# Altium footprint library PcbLib.PcbLib: 5 footprints
Each footprint in its own frame and in the unit in brackets; x right, y up, seen from the top. Pads: shape width x height; smd on the part's side, far side on the other; paste and mask are expansions set on the pad; w line width, h text height; cw(c..) or ccw(c..) is an arc to the next point about the centre after c.
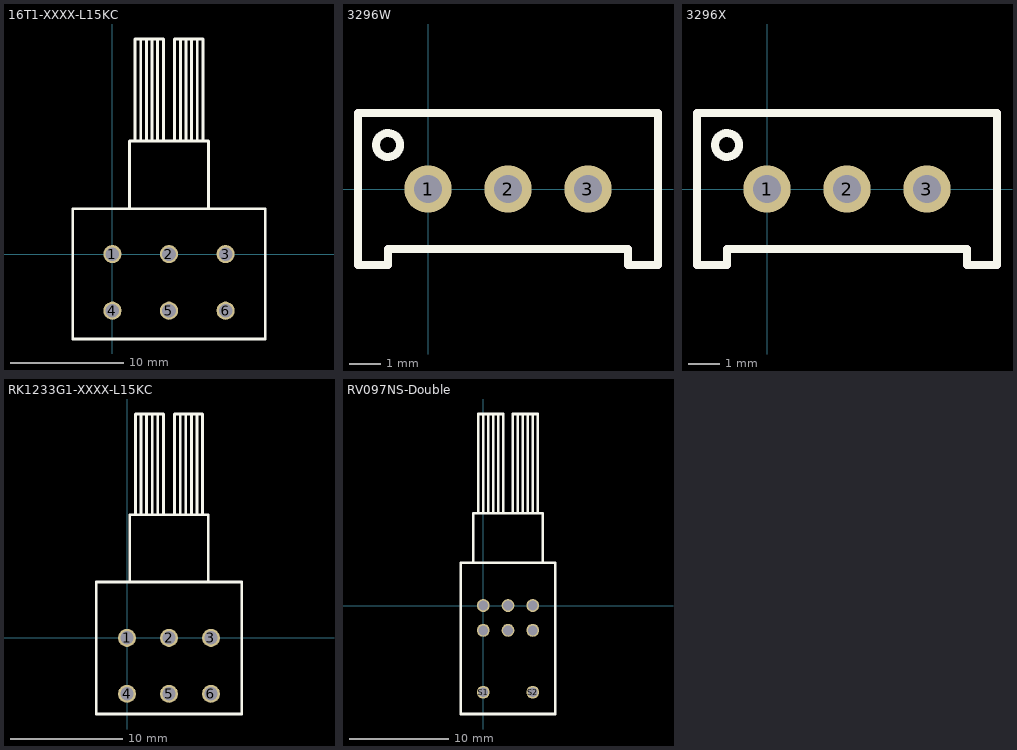
[diagram p0: the footprints below, top view; thin cyan lines are the x and y axes]

## 16T1-XXXX-L15KC [mm]
height 21
pads (6):
  round 1.6 hole 1.2: 1(0,0) 2(5,0) 3(10,0) 4(0,-5) 5(5,-5) 6(10,-5)
Top Overlay:
  lines w0.254: 1.5,4 1.5,10 ; 2.5,10 2.5,19 ; 3,10 3,19 ; 3.5,10 3.5,19 ; 4,10 4,19 ; 4.5,10 4.5,19 2,19 2,10 1.5,10 ; 5.5,10 5.5,19 8,19 8,10 ; 6,10 6,19 ; 6.5,10 6.5,19 ; 7,10 7,19 ; 7.5,10 7.5,19 ; 8.5,4 8.5,10 1.5,10 ; -3.5,-7.5 -3.5,4 13.5,4 13.5,-7.5 -3.5,-7.5
3D body "Potentiometer.stp": height 20.74, standoff -5.01, extent -3.5,-5.698 13.5,24.002

## 3296W [mm]
height 10.795
pads (3):
  round 1.5 hole 0.9: 1(0,0) 2(2.54,0) 3(5.08,0)
Top Overlay:
  circle w0.254: c-1.27,1.397 r0.381
  lines w0.254: -2.222,-2.413 -1.27,-2.413 -1.27,-1.905 6.35,-1.905 6.35,-2.413 7.302,-2.413 7.302,2.413 -2.222,2.413 -2.222,-2.413
Mechanical 13:
  lines w0.254: -2.222,-2.413 -1.27,-2.413 -1.27,-1.905 6.35,-1.905 6.35,-2.413 7.302,-2.413 7.302,2.413 -2.222,2.413 -2.222,-2.413
3D body: height 10.03, standoff 0, extent -2.222,-2.413 7.302,2.413
3D body: height 10.79, standoff 10.03, extent -1.981,0.053 0.195,2.233

## 3296X [mm]
height 10.033
pads (3):
  round 1.5 hole 0.9: 1(0,0) 2(2.54,0) 3(5.08,0)
Top Overlay:
  circle w0.254: c-1.27,1.397 r0.381
  lines w0.254: -2.222,-2.413 -2.222,2.413 7.302,2.413 7.302,-2.413 6.35,-2.413 6.35,-1.905 -1.27,-1.905 -1.27,-2.413 -2.222,-2.413
Mechanical 13:
  lines w0.254: -2.222,-2.413 -2.222,2.413 7.302,2.413 7.302,-2.413 6.35,-2.413 6.35,-1.905 -1.27,-1.905 -1.27,-2.413 -2.222,-2.413
3D body: height 9.85, standoff 7.67, extent 7.302,0.053 8.064,2.233
3D body: height 10.03, standoff 0, extent -2.222,-2.413 7.302,2.413

## RK1233G1-XXXX-L15KC [mm]
height 16.5
pads (6):
  round 1.6 hole 1.2: 1(0,0) 2(3.75,0) 3(7.5,0) 4(0,-5) 5(3.75,-5) 6(7.5,-5)
Top Overlay:
  lines w0.254: 0.25,5 0.25,11 ; 1.25,11 1.25,20 ; 1.75,11 1.75,20 ; 2.25,11 2.25,20 ; 2.75,11 2.75,20 ; 3.25,11 3.25,20 0.75,20 0.75,11 0.25,11 ; 4.25,11 4.25,20 6.75,20 6.75,11 ; 4.75,11 4.75,20 ; 5.25,11 5.25,20 ; 5.75,11 5.75,20 ; 6.25,11 6.25,20 ; 7.25,5 7.25,11 0.25,11 ; -2.75,-6.8 -2.75,5 10.25,5 10.25,-6.8 -2.75,-6.8

## RV097NS-Double [mm] "Double potentiometer with a switch"
height 11.3
pads (8):
  round 1.3 hole 1: R1_1(0,0) R1_2(2.5,0) R1_3(5,0) R2_1(0,-2.5) R2_2(2.5,-2.5) R2_3(5,-2.5) S1(0,-8.75) S2(5,-8.75)
Top Overlay:
  lines w0.254: -1,4.35 -1,9.35 6,9.35 6,4.35 ; -0.5,9.35 -0.5,19.35 2,19.35 2,9.35 ; 0,9.35 0,19.35 ; 0.5,9.35 0.5,19.35 ; 1,9.35 1,19.35 ; 1.5,9.35 1.5,19.35 ; 3,9.35 3,19.35 5.5,19.35 5.5,9.35 ; 3.5,9.35 3.5,19.35 ; 4,9.35 4,19.35 ; 4.5,9.35 4.5,19.35 ; 5,9.35 5,19.35 ; -2.25,-10.95 -2.25,4.35 7.25,4.35 7.25,-10.95 -2.25,-10.95
3D body: height 11.3, standoff 0, extent -2.25,-10.95 7.25,3
3D body: height 11.3, standoff 0, extent -2.25,3 7.25,4.35
3D body: height 9.1, standoff 3.1, extent -0.5,9.35 5.5,19.35
3D body: height 9.5, standoff 2.5, extent -1,4.35 6,9.35